# EAGLE library part 74590 (library dooba)
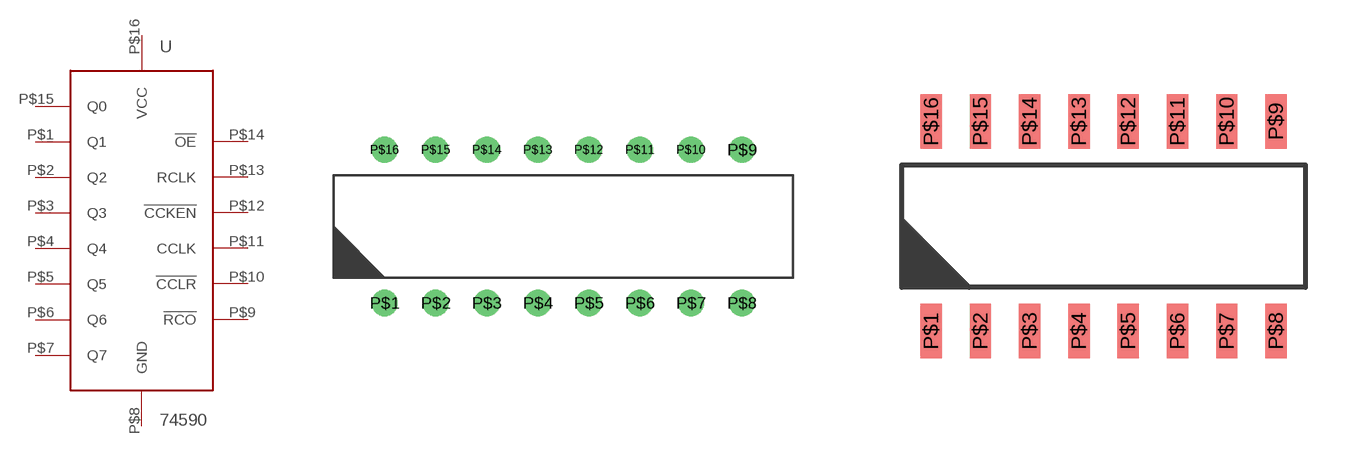
[diagram p62: symbol with the pads of PDIP16; footprints PDIP16, SOIC16]

Designator prefix U

## 74590PDIP  [PDIP16]
P$1  Q1
P$2  Q2
P$3  Q3
P$4  Q4
P$5  Q5
P$6  Q6
P$7  Q7
P$8  GND
P$9  !RCO
P$10  !CCLR
P$11  CCLK
P$12  !CCKEN
P$13  RCLK
P$14  !OE
P$15  Q0
P$16  VCC

## 74590SOIC  [SOIC16]
Pads as for PDIP16

## Footprint PDIP16 (pad centres in mm)
drill 0.8: P$1 -8.89,-3.81; P$2 -6.35,-3.81; P$3 -3.81,-3.81; P$4 -1.27,-3.81; P$5 1.27,-3.81; P$6 3.81,-3.81; P$7 6.35,-3.81; P$8 8.89,-3.81; P$9 8.89,3.81; P$10 6.35,3.81; P$11 3.81,3.81; P$12 1.27,3.81; P$13 -1.27,3.81; P$14 -3.81,3.81; P$15 -6.35,3.81; P$16 -8.89,3.81

## Footprint SOIC16 (pad centres in mm)
smd 0.55 x 1.4: P$1 -4.445,-2.7; P$2 -3.175,-2.7; P$3 -1.905,-2.7; P$4 -0.635,-2.7; P$5 0.635,-2.7; P$6 1.905,-2.7; P$7 3.175,-2.7; P$8 4.445,-2.7; P$9 4.445,2.7; P$10 3.175,2.7; P$11 1.905,2.7; P$12 0.635,2.7; P$13 -0.635,2.7; P$14 -1.905,2.7; P$15 -3.175,2.7; P$16 -4.445,2.7